# Altium schematic symbol library W25N01GVSFIG.SchLib: 1 symbol
Pins are listed as number, name and electrical type; pins without a type are passive.

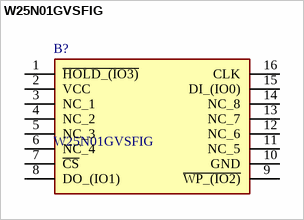
[diagram p0: symbol W25N01GVSFIG]

## W25N01GVSFIG
designator B?
1Gb Serial NAND Flash Memory with uniform 2KB+64B page size and set Buffer Read Mode as default; Manufacturer_Name: Winbond; Geometry.Height: 2.64mm; Manufacturer_Part_Number: W25N01GVSFIG; Mouser Part Number: 454-W25N01GVSFIG; Mouser Price/Stock: https://www.mouser.co.uk/ProductDetail/Winbond/W25N01GVSFIG?qs=qSfuJ%252Bfl%2Fd5wRcUOkRc5Cw%3D%3D; Arrow Part Number: W25N01GVSFIG; Arrow Price/Stock: https://www.arrow.com/en/products/w25n01gvsfig/winbond-electronics?region=nac; Datasheet Link: https://www.winbond.com/hq/search-resource-file.jsp?partNo=W25N01GVSFIG&type=datasheet
footprint SOIC127P1032X264-16N
pins: 1 ~{HOLD_(IO3)}, 2 VCC, 3 NC_1, 4 NC_2, 5 NC_3, 6 NC_4, 7 ~{CS}, 8 DO_(IO1), 9 ~{WP_(IO2)}, 10 GND, 11 NC_5, 12 NC_6, 13 NC_7, 14 NC_8, 15 DI_(IO0), 16 CLK